# EAGLE library part LM224DR2G (library ON Semiconductor_By_element14_Batch_1)
Operational Amplifiers
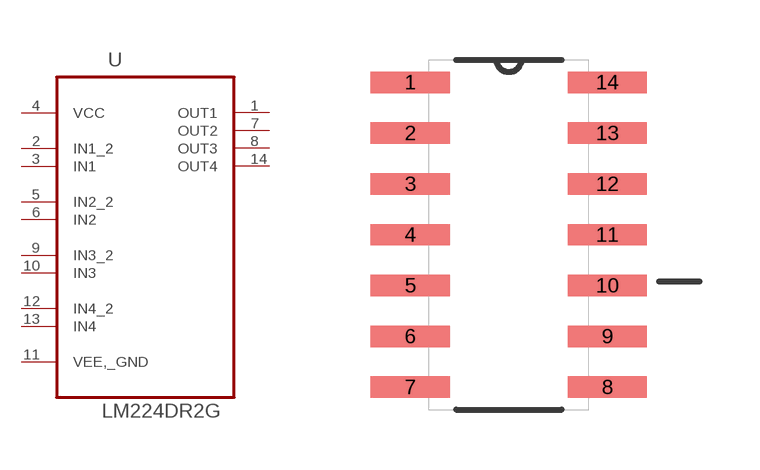
[diagram p30: symbol with the pads of SOIC127P600X175-14N; footprint SOIC127P600X175-14N]

Designator prefix U

## LM224DR2G (MPN: LM224DR2G; OC_FARNELL: 1426352; OC_NEWARK: 98H0552; P1I: o; PACKAGE: SOIC-14; SUPPLIER: ON SEMICONDUCTOR)  [SOIC127P600X175-14N]
1  OUT1  out
2  IN1_2  in
3  IN1  in
4  VCC  pwr
5  IN2_2  in
6  IN2  in
7  OUT2  out
8  OUT3  out
9  IN3_2  in
10  IN3  in
11  VEE,_GND  pas
12  IN4_2  in
13  IN4  in
14  OUT4  out

## Footprint SOIC127P600X175-14N (pad centres in mm)
smd 1.981 x 0.533: 1 -2.464,3.81; 2 -2.464,2.54; 3 -2.464,1.27; 4 -2.464,0; 5 -2.464,-1.27; 6 -2.464,-2.54; 7 -2.464,-3.81; 8 2.464,-3.81; 9 2.464,-2.54; 10 2.464,-1.27; 11 2.464,0; 12 2.464,1.27; 13 2.464,2.54; 14 2.464,3.81